# Altium schematic symbol library ISL85003AFRZ.SchLib: 1 symbol
Pins are listed as number, name and electrical type; pins without a type are passive.

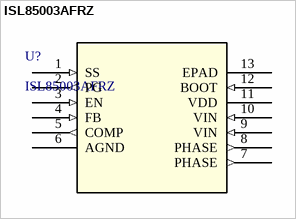
[diagram p0: symbol ISL85003AFRZ]

## ISL85003AFRZ
designator U?
No Description Available; Mfr_Name: Renesas Electronics; Copyright: Copyright (C) 2022 Ultra Librarian. All rights reserved.; Manufacturer_Part_Number: ISL85003AFRZ; Digi-Key_Part_Number_1: ISL85003AFRZ-ND; RefDes: RefDes; Type: DEV
pins: 1 SS (in), 2 PG (out), 3 EN (in), 4 FB (in), 5 COMP (out), 6 AGND (power), 7 PHASE (out), 8 PHASE (out), 9 VIN (in), 10 VIN (in), 11 VDD (power), 12 BOOT (in), 13 EPAD